# EAGLE library part MAX30100EFDT (library Project2)
Pulse Oximeter and Heart-Rate Sensor IC 14-Pin OLGA Check availability <https://pricing.snapeda.com/parts/MAX30100EFD/Maxim%20Integrated/view-part?ref=eda>
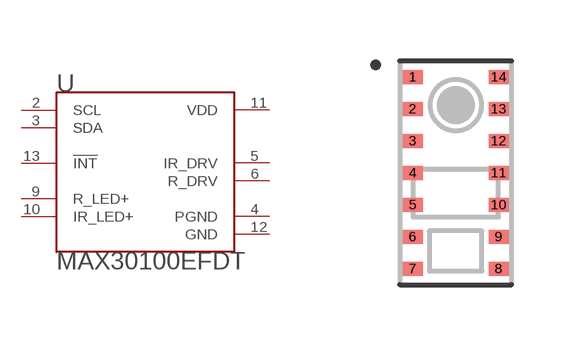
[diagram p6: symbol with the pads of LGA14R80P2X7_560X280X130; footprint LGA14R80P2X7_560X280X130]

Designator prefix U

## MAX30100EFDT (AVAILABILITY: In Stock; DESCRIPTION: Biometric Sensors Integrated Optical Sensor; MF: Maxim Integrated; MP: MAX30100EFD; PACKAGE: None; PRICE: None; PURCHASE-URL: https://pricing.snapeda.com/search/part/MAX30100EFD/?ref=eda)  [LGA14R80P2X7_560X280X130]
2  SCL  in
3  SDA
4  PGND  pas
5  IR_DRV  pas
6  R_DRV  pas
9  R_LED+  in
10  IR_LED+  in
11  VDD  pwr
12  GND  pas
13  !INT  in

## Footprint LGA14R80P2X7_560X280X130 (pad centres in mm)
smd 0.5 x 0.35: 1 -1.075,2.4; 2 -1.075,1.6; 3 -1.075,0.8; 4 -1.075,0; 5 -1.075,-0.8; 6 -1.075,-1.6; 7 -1.075,-2.4; 8 1.075,-2.4; 9 1.075,-1.6; 10 1.075,-0.8; 11 1.075,0; 12 1.075,0.8; 13 1.075,1.6; 14 1.075,2.4